# Altium schematic symbol library CL31B106KAHNFNE.SchLib: 1 symbol
Pins are listed as number, name and electrical type; pins without a type are passive.

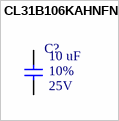
[diagram p0: symbol CL31B106KAHNFNE]

## CL31B106KAHNFNE
designator C?  Rated Voltage: 25V  Tolerance: 10%  Capacitence: 10 uF  (hidden comment: CL31B106KAHNFNE)
CAP CER 10UF 25V X7R 1206; MFR: Samsung Electro-Mechanics; PN: CL31B106KAHNFNE; ComponentLink1Description: Datasheet; ComponentLink1URL: http://www.samsungsem.com/kr/support/product-search/mlcc/CL31B106KAHNFNE.jsp; Temperature Coefficient: X7R; Package: 1206; Footprint: C1206; Supplier 1: Digi-Key; Supplier Part Number 1: 1276-3100-1-ND
footprint C1206 (A generic C1206 footprint)
pins: 1, 2